# Altium footprint library nnts.PcbLib: 44 footprints (part 1 of 3)
Each footprint in its own frame and in the unit in brackets; x right, y up, seen from the top. Pads: shape width x height; smd on the part's side, far side on the other; paste and mask are expansions set on the pad; w line width, h text height; cw(c..) or ccw(c..) is an arc to the next point about the centre after c.
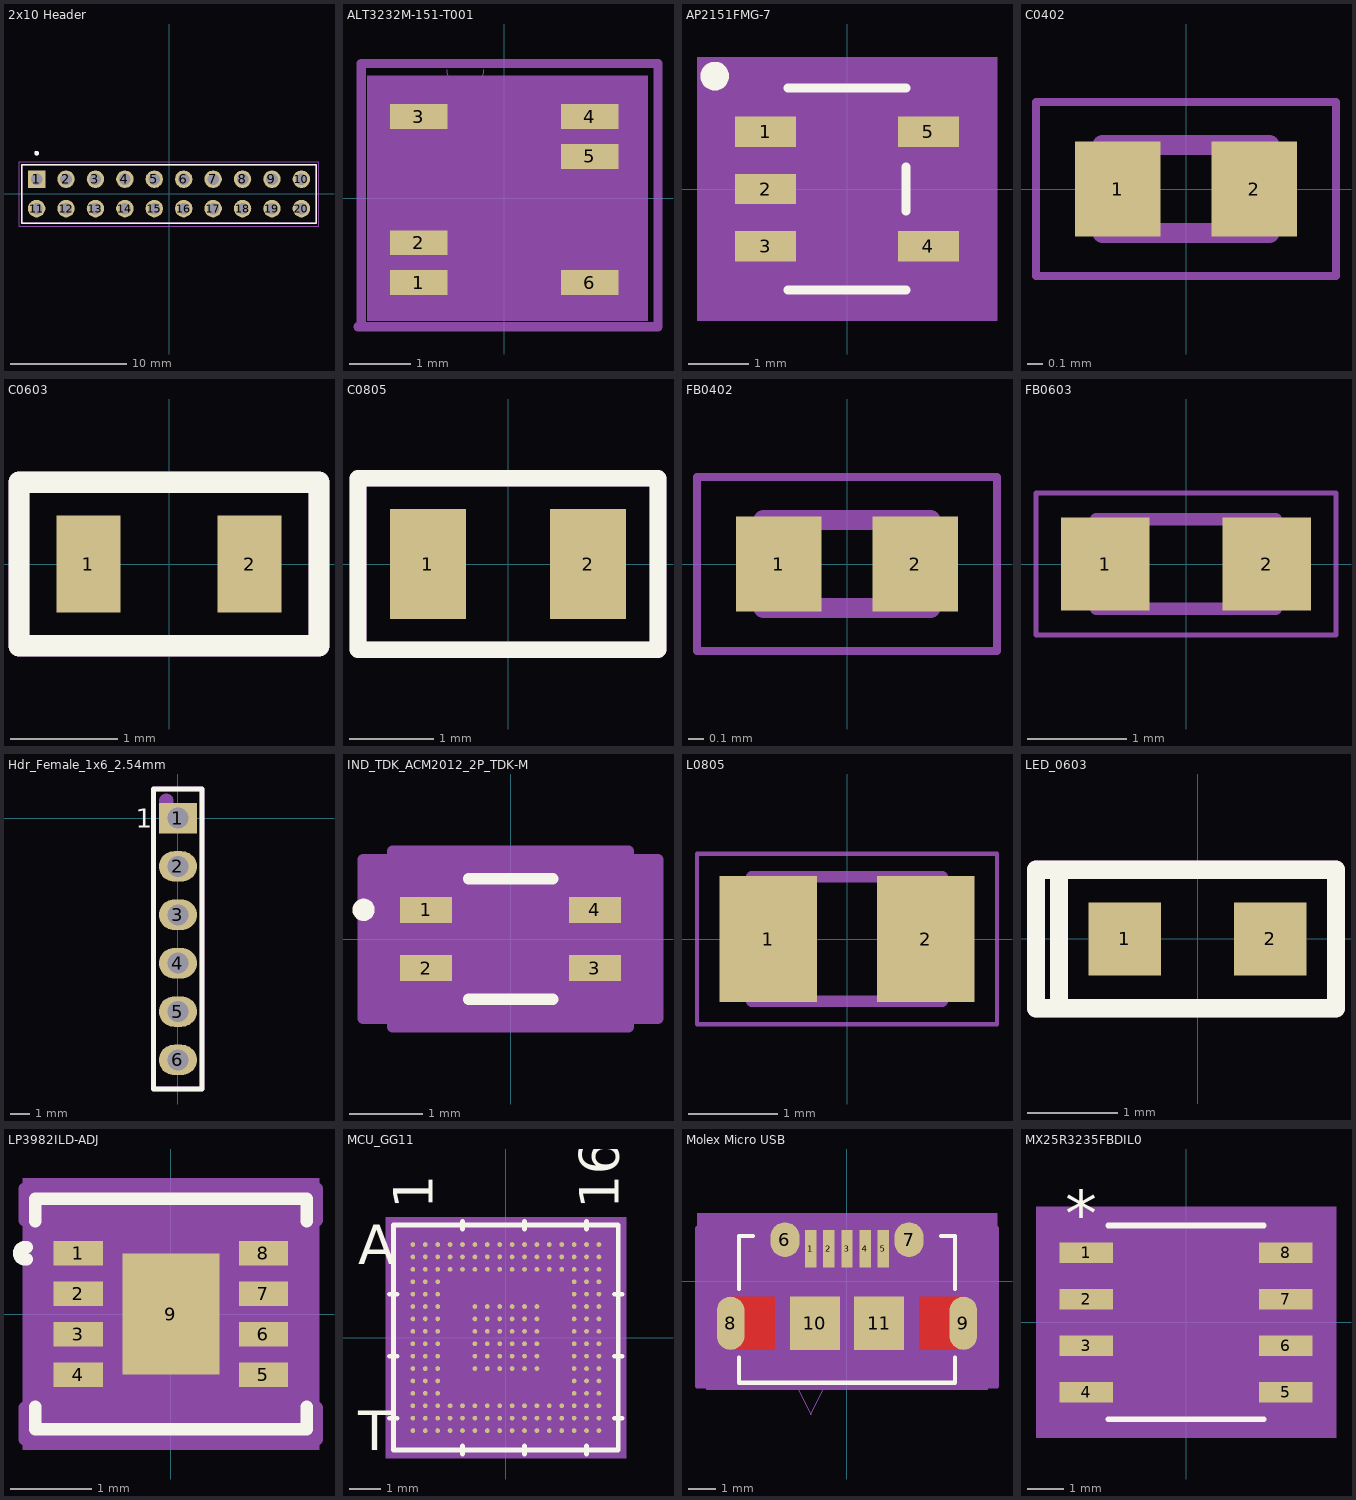
[diagram p0: the footprints below, top view; thin cyan lines are the x and y axes]

## 2x10 Header [mm] "HE2P-20G6C394-5R (2.54 mm pegs)"
pads (20):
  rect 1.508x1.508 hole 1: 1(-11.43,1.27)
  round 1.508 hole 1: 2(-8.89,1.27) 3(-6.35,1.27) 4(-3.81,1.27) 5(-1.27,1.27) 6(1.27,1.27) 7(3.81,1.27) 8(6.35,1.27) 9(8.89,1.27) 10(11.43,1.27) 11(-11.43,-1.27) 12(-8.89,-1.27) 13(-6.35,-1.27) 14(-3.81,-1.27) 15(-1.27,-1.27) 16(1.27,-1.27) 17(3.81,-1.27) 18(6.35,-1.27) 19(8.89,-1.27) 20(11.43,-1.27)
Top Overlay:
  circle w0.2: c-11.43,3.52 r0.1
  lines w0.127: -12.7,-2.52 -12.7,2.52 12.7,2.52 12.7,-2.52 -12.7,-2.52
Mechanical 13:
  circle w0.2: c-11.43,3.52 r0.1
  lines w0.127: -12.7,-2.52 -12.7,2.52 12.7,2.52 12.7,-2.52 -12.7,-2.52
Mechanical 15:
  lines w0.05: -12.95,-2.77 -12.95,2.77 12.95,2.77 12.95,-2.77 -12.95,-2.77
3D body "1-825440-0.stp": height 9.51, standoff -3.19, extent -12.7,-3.65 12.7,2.5

## ALT3232M-151-T001 [mil]
pads (6):
  rect 37x16 smd paste+0 mask+0: 1(-54.94,-54.13) 2(-54.94,-28.54) 3(-54.94,52.56) 4(54.94,52.56) 5(54.94,26.97) 6(54.94,-54.13)
Mechanical 5:
  region: 92.44,-78.74 -88.05,-78.74 -88.05,78.74 92.44,78.74
Mechanical 13:
  lines w0: -37.06,82.75 ccw(c-25.06,82.75) -13.06,82.75
  lines w1: 67.44,-30.64 67.44,-14.64 67.44,-30.64 ; 67.44,20.54 67.44,36.54 67.44,20.54 ; 67.44,46.13 67.44,62.13 67.44,46.13
Mechanical 15:
  lines w5.98: -91.99,-80.67 -91.99,86.75 ; 99,-82.68 99,86.75
  lines w6: -94,-82.68 99,-82.68 ; -91.99,86.75 99,86.75
3D body: height 10, standoff 0, extent -25.06,15.75 -15.06,25.75
3D body "User Library-ALT3232.STEP": height 110.74, standoff -3.43, extent -64.96,-63.39 64.96,62.6

## AP2151FMG-7 [mm]
pads (5):
  rect 1.006x0.5 smd paste+0 mask+0: 1(-1.353,0.95) 2(-1.353,0) 3(-1.353,-0.95) 4(1.353,-0.95) 5(1.353,0.95)
Top Overlay:
  circle w0.254: c-2.197,1.875 r0.111
  lines w0.152: -0.977,-1.677 0.977,-1.677 ; -0.977,1.677 0.977,1.677 ; 0.977,-0.367 0.977,0.367
Mechanical 5:
  region: 2.491,-2.185 -2.491,-2.185 -2.491,2.185 2.491,2.185
Mechanical 13:
  lines w0: -0.305,1.55 ccw(c0,1.55) 0.305,1.55
  lines w0.025: -1.5,-1.2 -1.5,-0.7 -0.85,-0.7 -0.85,-1.2 -1.5,-1.2 ; -1.5,-0.25 -1.5,0.25 -0.85,0.25 -0.85,-0.25 -1.5,-0.25 ; -1.5,0.7 -1.5,1.2 -0.85,1.2 -0.85,0.7 -1.5,0.7 ; -0.85,-1.55 0.85,-1.55 0.85,1.55 -0.85,1.55 -0.85,-1.55 ; 0.85,-1.2 0.85,-0.7 1.5,-0.7 1.5,-1.2 0.85,-1.2 ; 0.85,0.7 0.85,1.2 1.5,1.2 1.5,0.7 0.85,0.7
  text "*" at -0.914,0.231 h1.27
Mechanical 15:
  region: 1.104,-1.804 -1.104,-1.804 -1.104,-1.331 -2.008,-1.331 -2.008,1.331 -1.104,1.331 -1.104,1.804 1.104,1.804 1.104,1.331 2.008,1.331 2.008,-1.331 1.104,-1.331
  lines w0.152: -2.008,-1.331 -1.104,-1.331 -1.104,-1.804 1.104,-1.804 1.104,-1.331 2.008,-1.331 2.008,1.331 1.104,1.331 1.104,1.804 -1.104,1.804 -1.104,1.331 -2.008,1.331 -2.008,-1.331
3D body "SOT25_DIO.step": height 1.45, standoff 0, extent -1.5,-1.55 1.5,1.55
3D body: height 0.25, standoff 0, extent 0,0 0.254,0.254

## C0402 [mm]
pads (2):
  rect 0.54x0.6 smd mask+0.051: 1(-0.432,0) 2(0.432,0)
Mechanical 13:
  lines w0.127: -0.53,-0.28 -0.53,0.28 0.53,0.28 0.53,-0.28 -0.53,-0.28
Mechanical 15:
  lines w0.05: -0.95,-0.55 -0.95,0.55 0.95,0.55 0.95,-0.55 -0.95,-0.55
3D body "step_temp.STEP": height 0.55, standoff 0, extent -0.5,-0.25 0.5,0.25

## C0603 [mm]
pads (2):
  rect 0.6x0.9 smd: 1(-0.75,0) 2(0.75,0)
Top Overlay:
  lines w0.2: -1.397,-0.762 -1.397,0.762 1.397,0.762 1.397,-0.762 -1.397,-0.762
Mechanical 29:
  lines w0.2: -1.397,-0.762 -1.397,0.762 1.397,0.762 1.397,-0.762 -1.397,-0.762
  text ".Designator" at -0.281,-0.114 h0.5
3D body "CAPC1508X65N EIA 0603.step": height 0.66, standoff 0.01, extent -0.75,-0.4 0.75,0.4

## C0805 [mm]
pads (2):
  rect 0.9x1.3 smd: 1(-0.95,0) 2(0.95,0)
Top Overlay:
  lines w0.2: -1.778,-1.016 1.778,-1.016 1.778,1.016 -1.778,1.016 -1.778,-1.016
Mechanical 29:
  lines w0.2: -1.778,-1.016 1.778,-1.016 1.778,1.016 -1.778,1.016 -1.778,-1.016
  text ".Designator" at -1.018,-0.31 h0.6
3D body "CAPC2012X94N EIA 0805.step": height 0.95, standoff 0.01, extent -1,-0.6 1,0.6

## FB0402 [mm]
pads (2):
  rect 0.54x0.6 smd: 1(-0.432,0) 2(0.432,0)
Mechanical 13:
  lines w0.127: -0.53,-0.28 -0.53,0.28 0.53,0.28 0.53,-0.28 -0.53,-0.28
Mechanical 15:
  lines w0.05: -0.95,-0.55 -0.95,0.55 0.95,0.55 0.95,-0.55 -0.95,-0.55
3D body "BLM15AG102SH1D.STEP": height 0.51, standoff 0.01, extent -0.497,-0.277 0.503,0.273

## FB0603 [mm]
pads (2):
  rect 0.89x0.93 smd: 1(-0.814,0) 2(0.814,0)
Mechanical 13:
  lines w0.127: -0.9,-0.45 0.9,-0.45 0.9,0.45 -0.9,0.45 -0.9,-0.45
Mechanical 15:
  lines w0.05: -1.508,-0.715 1.508,-0.715 1.508,0.715 -1.508,0.715 -1.508,-0.715
3D body "RESC1608X50N EIA 0603.step": height 0.51, standoff 0.01, extent -0.8,-0.4 0.8,0.4

## Hdr_Female_1x6_2.54mm [mm]
pads (6):
  rect 2x1.6 hole 1.1: 1(0,0)
  oval 2x1.6 hole 1.1: 2(0,-2.54) 3(0,-5.08) 4(0,-7.62) 5(0,-10.16) 6(0,-12.7)
Top Overlay:
  lines w0.254: -1.27,-14.224 -1.27,1.524 1.27,1.524 1.27,-14.224 -1.27,-14.224
  text "1" at -2.2,-0.5 h1
Mechanical 29:
  circle w0.762: c-0.6,0.9 r0.003
  lines w0.254: -1.27,-14.224 1.27,-14.224 1.27,1.524 -1.27,1.524 -1.27,-14.224
  text ".Designator" at 0.762,-7.874 h1.52
3D body "m20-7820646_asm.stp": height 8.51, standoff -2.99, extent -1.25,-14.17 1.25,1.47

## IND_TDK_ACM2012_2P_TDK-M [mil]
pads (4):
  rect 28x14 smd paste+1 mask+0: 1(-45.5,15.75) 2(-45.5,-15.75) 3(45.5,-15.75) 4(45.5,15.75)
Top Overlay:
  circle w6: c-79.25,15.75 r3
  lines w6: -22.75,-32.5 22.75,-32.5 ; -22.75,32.5 22.75,32.5
Mechanical 13:
  lines w1: -43.5,-27.5 -43.5,27.5 43.5,27.5 43.5,-27.5 -43.5,-27.5
Mechanical 15:
  region: -63.5,-42.75 -79.5,-42.75 -79.5,42.75 -63.5,42.75 -63.5,47.5 63.5,47.5 63.5,42.75 79.5,42.75 79.5,-42.75 63.5,-42.75 63.5,-47.5 -63.5,-47.5
  lines w6: -79.5,-42.75 -63.5,-42.75 -63.5,-47.5 63.5,-47.5 63.5,-42.75 79.5,-42.75 79.5,42.75 63.5,42.75 63.5,47.5 -63.5,47.5 -63.5,42.75 -79.5,42.75 -79.5,-42.75
3D body: height 10, standoff 0, extent 0,0 10,10
3D body "IND_TDK_ACM2012_2P_TDK-M.step": height 51.1, standoff 0, extent -43.5,-27.47 43.51,27.49

## L0805 [mm]
pads (2):
  rect 1.1x1.42 smd: 1(-0.885,0) 2(0.885,0)
Mechanical 13:
  lines w0.127: -1.07,-0.7 1.07,-0.7 1.07,0.7 -1.07,0.7 -1.07,-0.7
Mechanical 15:
  lines w0.05: -1.685,-0.96 1.685,-0.96 1.685,0.96 -1.685,0.96 -1.685,-0.96
3D body "step_temp.STEP": height 1, standoff 0, extent -1,-0.625 1,0.625

## LED_0603 [mm]
pads (2):
  rect 0.8x0.8 smd: 1(-0.8,0) 2(0.8,0)
Top Overlay:
  lines w0.2: -1.524,-0.762 1.524,-0.762 1.524,0.762 -1.524,0.762 ; -1.524,-0.762 -1.524,0.762 ; -1.524,-0.762 -1.778,-0.762 -1.778,0.762 -1.524,0.762
Mechanical 29:
  lines w0.2: -1.651,-0.762 -1.524,-0.762 -1.524,0.762 ; -1.778,-0.762 1.524,-0.762 1.524,0.762 -1.778,0.762 -1.778,-0.762
  text ".Designator" at -0.408,-0.241 h0.5
3D body "User Library-LED SMD 0603 super red.step": height 0.66, standoff 0.01, extent -0.85,-0.4 0.85,0.4
3D body: height 0.67, standoff 0.08, extent -0.254,-0.254 0.254,0.254

## LP3982ILD-ADJ [mil] "300 mA voltage regulator"
pads (9):
  rect 24x12 smd paste-6: 1(-45,29.53) 2(-45,9.84) 3(-45,-9.84) 4(-45,-29.53) 5(45,-29.53) 6(45,-9.84) 7(45,9.84) 8(45,29.53)
  rect 47.24x59.06 smd paste-29.03 mask+0: 9(0,0)
Top Overlay:
  lines w6: -70.1,26.62 cw(c-70.84,29.53) -70.1,32.43 ; -66,-45.05 -66,-56 66,-56 66,-45.05 ; -66,45.05 -66,56 66,56 66,45.05
Mechanical 5:
  region: 72,-66 -72,-66 -72,66 72,66
Mechanical 13:
  circle w0: c-28,29.53 r3
  lines w1: -61,31 -41,51 ; -61,-51 -61,51 61,51 61,-51 -61,-51
Mechanical 15:
  region: -71,-45.53 -67,-45.53 -67,45.53 -71,45.53 -71,61 71,61 71,45.53 67,45.53 67,-45.53 71,-45.53 71,-61 -71,-61
  lines w6: -71,-61 71,-61 71,-45.53 67,-45.53 67,45.53 71,45.53 71,61 -71,61 -71,45.53 -67,45.53 -67,-45.53 -71,-45.53 -71,-61
3D body "LDA08C_TEX.step": height 24.09, standoff 0, extent -62.99,-50.98 63,50.99
3D body: height 10, standoff 0, extent 0,0 10,10

## MCU_GG11 [mm]
pads (192):
  round 0.152 smd paste-0.125 mask-0.127: A1(-3,3) A2(-2.6,3) A3(-2.2,3) A4(-1.8,3) A5(-1.4,3) A6(-1,3) A7(-0.6,3) A8(-0.2,3) A9(0.2,3) A10(0.6,3) A11(1,3) A12(1.4,3) A13(1.8,3) A14(2.2,3) A15(2.6,3) A16(3,3) B1(-3,2.6) B2(-2.6,2.6) B3(-2.2,2.6) B4(-1.8,2.6) B5(-1.4,2.6) B6(-1,2.6) B7(-0.6,2.6) B8(-0.2,2.6) B9(0.2,2.6) B10(0.6,2.6) B11(1,2.6) B12(1.4,2.6) B13(1.8,2.6) B14(2.2,2.6) B15(2.6,2.6) B16(3,2.6) C1(-3,2.2) C2(-2.6,2.2) C3(-2.2,2.2) C4(-1.8,2.2) C5(-1.4,2.2) C6(-1,2.2) C7(-0.6,2.2) C8(-0.2,2.2) C9(0.2,2.2) C10(0.6,2.2) C11(1,2.2) C12(1.4,2.2) C13(1.8,2.2) C14(2.2,2.2) C15(2.6,2.2) C16(3,2.2) D1(-3,1.8) D2(-2.6,1.8) D3(-2.2,1.8) D14(2.2,1.8) D15(2.6,1.8) D16(3,1.8) E1(-3,1.4) E2(-2.6,1.4) E3(-2.2,1.4) E14(2.2,1.4) E15(2.6,1.4) E16(3,1.4) F1(-3,1) F2(-2.6,1) F3(-2.2,1) F6(-1,1) F7(-0.6,1) F8(-0.2,1) F9(0.2,1) F10(0.6,1) F11(1,1) F14(2.2,1) F15(2.6,1) F16(3,1) G1(-3,0.6) G2(-2.6,0.6) G3(-2.2,0.6) G6(-1,0.6) G7(-0.6,0.6) G8(-0.2,0.6) G9(0.2,0.6) G10(0.6,0.6) G11(1,0.6) G14(2.2,0.6) G15(2.6,0.6) G16(3,0.6) H1(-3,0.2) H2(-2.6,0.2) H3(-2.2,0.2) H6(-1,0.2) H7(-0.6,0.2) H8(-0.2,0.2) H9(0.2,0.2) H10(0.6,0.2) H11(1,0.2) H14(2.2,0.2) H15(2.6,0.2) H16(3,0.2) J1(-3,-0.2) J2(-2.6,-0.2) J3(-2.2,-0.2) J6(-1,-0.2) J7(-0.6,-0.2) J8(-0.2,-0.2) J9(0.2,-0.2) J10(0.6,-0.2) J11(1,-0.2) J14(2.2,-0.2) J15(2.6,-0.2) J16(3,-0.2) K1(-3,-0.6) K2(-2.6,-0.6) K3(-2.2,-0.6) K7(-0.6,-0.6) K8(-0.2,-0.6) K9(0.2,-0.6) K10(0.6,-0.6) K11(1,-0.6) K14(2.2,-0.6) K15(2.6,-0.6) K16(3,-0.6) L1(-3,-1) L2(-2.6,-1) L3(-2.2,-1) L6(-1,-1) L7(-0.6,-1) L8(-0.2,-1) L9(0.2,-1) L10(0.6,-1) L11(1,-1) L14(2.2,-1) L15(2.6,-1) L16(3,-1) M1(-3,-1.4) M2(-2.6,-1.4) M3(-2.2,-1.4) M14(2.2,-1.4) M15(2.6,-1.4) M16(3,-1.4) N1(-3,-1.8) N2(-2.6,-1.8) N3(-2.2,-1.8) N14(2.2,-1.8) N15(2.6,-1.8) N16(3,-1.8) P1(-3,-2.2) P2(-2.6,-2.2) P3(-2.2,-2.2) P4(-1.8,-2.2) P5(-1.4,-2.2) P6(-1,-2.2) P7(-0.6,-2.2) P8(-0.2,-2.2) P9(0.2,-2.2) P10(0.6,-2.2) P11(1,-2.2) P12(1.4,-2.2) P13(1.8,-2.2) P14(2.2,-2.2) P15(2.6,-2.2) P16(3,-2.2) R1(-3,-2.6) R2(-2.6,-2.6) R3(-2.2,-2.6) R4(-1.8,-2.6) R5(-1.4,-2.6) R6(-1,-2.6) R7(-0.6,-2.6) R8(-0.2,-2.6) R9(0.2,-2.6) R10(0.6,-2.6) R11(1,-2.6) R12(1.4,-2.6) R13(1.8,-2.6) R14(2.2,-2.6) R15(2.6,-2.6) R16(3,-2.6) T1(-3,-3) T2(-2.6,-3) T3(-2.2,-3) T4(-1.8,-3) T5(-1.4,-3) T6(-1,-3) T7(-0.6,-3) T8(-0.2,-3) T9(0.2,-3) T10(0.6,-3) T11(1,-3) T12(1.4,-3) T13(1.8,-3) T14(2.2,-3) T15(2.6,-3) T16(3,-3)
  round 0.152 smd paste-0.125 mask-0.102: K6(-1,-0.6)
Top Overlay:
  lines w0.152: -3.754,-2.6 -3.5,-2.6 ; -3.754,-0.6 -3.5,-0.6 ; -3.754,1.4 -3.5,1.4 ; -1.4,-3.754 -1.4,-3.5 ; -1.4,3.5 -1.4,3.754 ; 0.6,-3.754 0.6,-3.5 ; 0.6,3.5 0.6,3.754 ; 2.6,-3.754 2.6,-3.5 ; 2.6,3.5 2.6,3.754 ; 3.5,-2.6 3.754,-2.6 ; 3.5,-0.6 3.754,-0.6 ; 3.5,1.4 3.754,1.4 ; -3.627,-3.627 -3.627,3.627 3.627,3.627 3.627,-3.627 -3.627,-3.627
  text "16" at 3.635,4.135 h1.27
  text "1" at -2.365,4.135 h1.27
  text "T" at -4.77,-3.635 h1.27
  text "A" at -4.77,2.365 h1.27
Bottom Overlay:
  text "16" at 2.365,4.135 h1.27
  text "1" at -3.635,4.135 h1.27
  text "T" at -4.135,-3.635 h1.27
  text "A" at -4.135,2.365 h1.27
Mechanical 5:
  region: 3.881,-3.886 -3.881,-3.886 -3.881,3.876 3.881,3.876
Mechanical 13:
  lines w0.025: -3.5,3.3 -3.3,3.5 ; -3.5,-3.5 -3.5,3.5 3.5,3.5 3.5,-3.5 -3.5,-3.5
  text "16" at 3.635,4.135 h1.27
  text "1" at -2.365,4.135 h1.27
  text "T" at -4.77,-3.635 h1.27
  text "A" at -4.77,2.365 h1.27
Mechanical 15:
  region: 3.754,-3.754 -3.754,-3.754 -3.754,3.754 3.754,3.754
  lines w0.152: -3.754,-3.754 3.754,-3.754 3.754,3.754 -3.754,3.754 -3.754,-3.754
3D body "BGA192_7P0X7P0.step": height 0.66, standoff -0.24, extent -3.5,-3.5 3.5,3.5
3D body: height 0.25, standoff 0, extent 0,0 0.254,0.254

## Molex Micro USB [mil]
pads (11):
  rect 16x53 smd paste+0 mask+0: 1(-51.18,46.18) 2(-25.59,46.18) 3(0,46.18) 4(25.59,46.18) 5(51.18,46.18)
  oval 41x49 smd: 6(-87.6,59.06) 7(87.6,59.06)
  oval 39x75 smd: 8(-164.37,-59.06) 9(164.37,-59.06)
  rect 71x75 smd: 10(-45.28,-59.06) 11(45.28,-59.06)
Top Layer:
  region: -102.37,-96.56 -102.37,-21.56 -164.37,-21.56 -152.37,-33.56 -152.37,-84.56 -164.37,-96.56
  region: 164.37,-21.56 102.37,-21.56 102.37,-96.56 164.37,-96.56 152.37,-84.56 152.37,-33.56
Top Overlay:
  lines w6: -152.5,-107.42 -152.5,-142.94 152.5,-142.94 152.5,-107.42 ; -152.5,-10.69 -152.5,64.06 -132.66,64.06 ; 132.66,64.06 152.5,64.06 152.5,-10.69
Top Paste:
  region: -102.37,-96.56 -102.37,-21.56 -164.37,-21.56 -152.37,-33.56 -152.37,-84.56 -164.37,-96.56
  region: 164.37,-21.56 102.37,-21.56 102.37,-96.56 164.37,-96.56 152.37,-84.56 152.37,-33.56
Top Solder:
  region: -102.37,-96.56 -102.37,-21.56 -164.37,-21.56 -152.37,-33.56 -152.37,-84.56 -164.37,-96.56
  region: 164.37,-21.56 102.37,-21.56 102.37,-96.56 164.37,-96.56 152.37,-84.56 152.37,-33.56
Mechanical 5:
  region: -198.87,74.06 198.87,74.06 198.87,-152.94 -198.87,-152.94
Mechanical 13:
  lines w1: -76.18,-137.94 -51.18,-187.94 -26.18,-137.94 ; -147.5,-137.94 147.5,-137.94 147.5,59.06 -147.5,59.06 -147.5,-137.94
Mechanical 15:
  region: 211.87,96.06 211.87,-147.94 -211.87,-147.94 -211.87,96.06
  region: 147.5,59.06 147.5,-137.94 -147.5,-137.94 -147.5,59.06
  lines w6: -211.87,-147.94 -211.87,75 211.87,75 211.87,-147.94 -211.87,-147.94 ; -147.5,-137.94 -147.5,59.06 147.5,59.06 147.5,-137.94 -147.5,-137.94
Multi-Layer:
  lines w24: -164.37,-72.83 -164.37,-45.28 ; 164.37,-72.83 164.37,-45.28
  lines w26: -87.6,55.12 -87.6,62.99 ; 87.6,55.12 87.6,62.99
3D body "47590-0001.stp": height 107.97, standoff -24.15, extent -170.55,-167.28 170,65
3D body: height 10, standoff 0, extent -0.01,-39.46 9.99,-29.46

## MX25R3235FBDIL0 [mil] "Macronix Low Power CMOS Flash Memory IC"
pads (8):
  rect 57.5x22 smd paste+0 mask+0: 1(-107.25,75) 2(-107.25,25) 3(-107.25,-25) 4(-107.25,-75) 5(107.25,-75) 6(107.25,-25) 7(107.25,25) 8(107.25,75)
Top Overlay:
  lines w6: -83.5,-104 83.5,-104 ; -83.5,104 83.5,104
  text "*" at -129.75,92 h50
Mechanical 5:
  region: 161,-124 -161,-124 -161,124 161,124
Mechanical 13:
  lines w0: -12,99 ccw(c0,99) 12,99
  lines w1: -122,-85 -122,-65 -78.5,-65 -78.5,-85 -122,-85 ; -122,-35 -122,-15 -78.5,-15 -78.5,-35 -122,-35 ; -122,15 -122,35 -78.5,35 -78.5,15 -122,15 ; -122,65 -122,85 -78.5,85 -78.5,65 -122,65 ; -78.5,-99 78.5,-99 78.5,99 -78.5,99 -78.5,-99 ; 78.5,-85 78.5,-65 122,-65 122,-85 78.5,-85 ; 78.5,-35 78.5,-15 122,-15 122,-35 78.5,-35 ; 78.5,15 78.5,35 122,35 122,15 78.5,15 ; 78.5,65 78.5,85 122,85 122,65 78.5,65
  text "*" at -76,46 h50
Mechanical 15:
  region: -88.5,-96 -146,-96 -146,96 -88.5,96 -88.5,109 88.5,109 88.5,96 146,96 146,-96 88.5,-96 88.5,-109 -88.5,-109
  lines w6: -146,-96 -146,96 -88.5,96 -88.5,109 88.5,109 88.5,96 146,96 146,-96 88.5,-96 88.5,-109 -88.5,-109 -88.5,-96 -146,-96
3D body: height 10, standoff 0, extent 0,0 10,10
3D body "SOP_8L_150_MAC.step": height 69.09, standoff 0, extent -122,-99.01 122.01,99.02